# EAGLE library part SBH11-NBPC-D17 (library con-sullins)
HEADER - Vertical, Shrouded
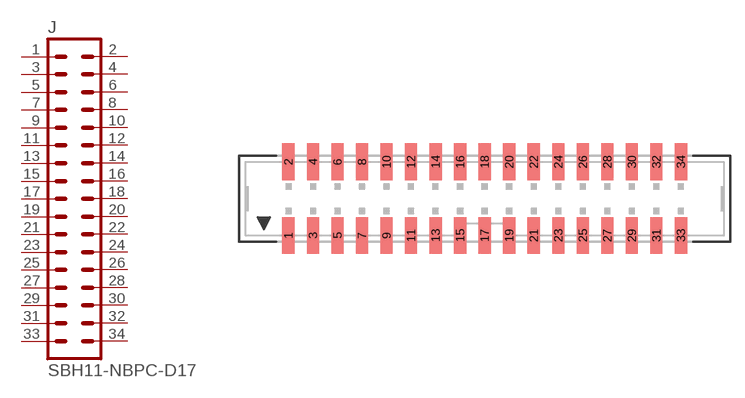
[diagram p28: symbol with the pads of SBH11-NBPC-D17; footprint SBH11-NBPC-D17]

Designator prefix J

## SBH11-NBPC-D17  [SBH11-NBPC-D17]
1  1  pas
2  2  pas
3  3  pas
4  4  pas
5  5  pas
6  6  pas
7  7  pas
8  8  pas
9  9  pas
10  10  pas
11  11  pas
12  12  pas
13  13  pas
14  14  pas
15  15  pas
16  16  pas
17  17  pas
18  18  pas
19  19  pas
20  20  pas
21  21  pas
22  22  pas
23  23  pas
24  24  pas
25  25  pas
26  26  pas
27  27  pas
28  28  pas
29  29  pas
30  30  pas
31  31  pas
32  32  pas
33  33  pas
34  34  pas

## Footprint SBH11-NBPC-D17 (pad centres in mm)
SMD HEADER - 0.1", Shrouded, Vertical
smd 1.27 x 3.81: 1 -20.32,-3.81; 2 -20.32,3.81; 3 -17.78,-3.81; 4 -17.78,3.81; 5 -15.24,-3.81; 6 -15.24,3.81; 7 -12.7,-3.81; 8 -12.7,3.81; 9 -10.16,-3.81; 10 -10.16,3.81; 11 -7.62,-3.81; 12 -7.62,3.81; 13 -5.08,-3.81; 14 -5.08,3.81; 15 -2.54,-3.81; 16 -2.54,3.81; 17 0,-3.81; 18 0,3.81; 19 2.54,-3.81; 20 2.54,3.81; 21 5.08,-3.81; 22 5.08,3.81; 23 7.62,-3.81; 24 7.62,3.81; 25 10.16,-3.81; 26 10.16,3.81; 27 12.7,-3.81; 28 12.7,3.81; 29 15.24,-3.81; 30 15.24,3.81; 31 17.78,-3.81; 32 17.78,3.81; 33 20.32,-3.81; 34 20.32,3.81